# EAGLE library part AS5048A (library encoders)
AS5048A - Magnetic Rotary Encoder
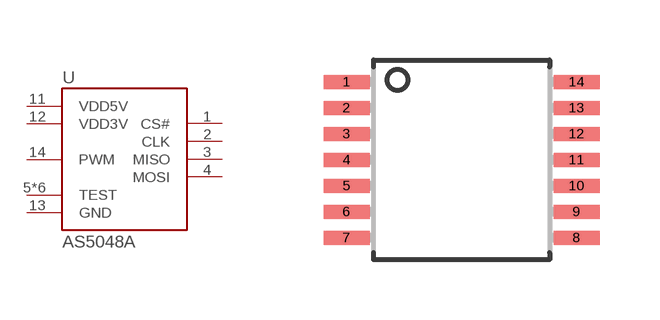
[diagram p1: symbol with the pads of TSSOP-14; footprint TSSOP-14]

Designator prefix U

## AS5048A (MF: AMS; MPN: AS5048A-HTSP; REVIEWED: NO; TESTED: NO)  [TSSOP-14]
1  CS#  in
2  CLK  in
3  MISO
4  MOSI  in
5  TEST  in
6  TEST  in
7  TEST  in
8  TEST  in
9  TEST  in
10  TEST  in
11  VDD5V  pwr
12  VDD3V  pwr
13  GND  pwr
14  PWM  out

## Footprint TSSOP-14 (pad centres in mm)
Based on AS5048 Datasheet Datasheet does not specify a footprint, this is derived from package dimensions. Toe set to .250mm, heel set to .300mm Height of package outline is max 1.2mm. Circular heights are supposed to help with placement of magnet. Allowing magnet to be centered and distance to be measured. The magnet should be 0.5 to 2.5mm from top of package. The top of the package is nominally 1.10mm from PCB. The Height of the magnet should be 1.6 to 3.6mm from PCB.
smd 1.15 x 0.35: 1 -2.875,1.95; 2 -2.875,1.3; 3 -2.875,0.65; 4 -2.875,0; 5 -2.875,-0.65; 6 -2.875,-1.3; 7 -2.875,-1.95; 8 2.875,-1.95; 9 2.875,-1.3; 10 2.875,-0.65; 11 2.875,0; 12 2.875,0.65; 13 2.875,1.3; 14 2.875,1.95